# Altium integrated library Encoder_w_LED_ring.IntLib: 18 symbols
Pins are listed as number, name and electrical type; pins without a type are passive.

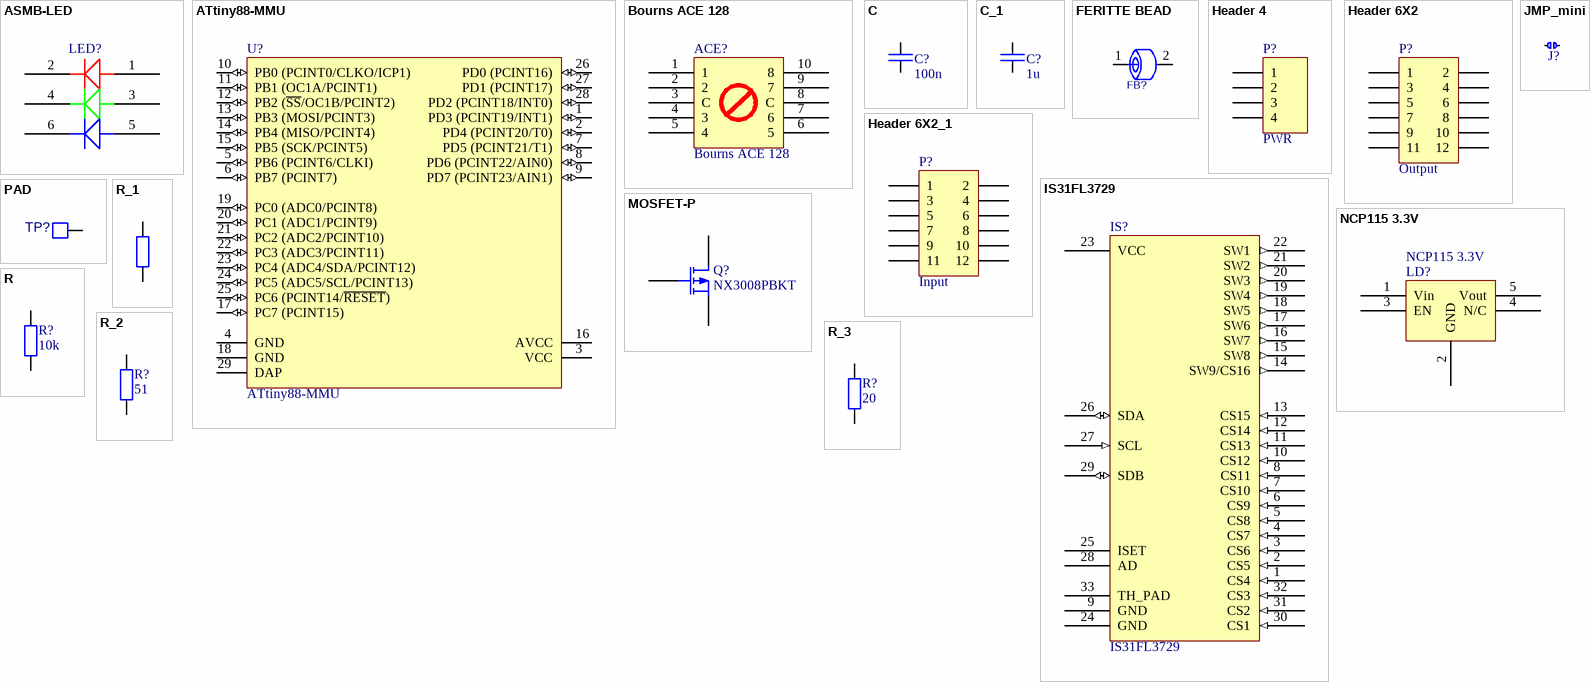
[diagram p0: symbols ASMB-LED to R_3]

## ASMB-LED
designator LED?, comment SMB-LED  (value not drawn)
footprint ASMB-LED
pins: 1, 2, 3, 4, 5, 6

## ATtiny88-MMU
designator U?
8-bit AVR Microcontroller, 1.8-5.5V, 8KB Flash, 64 Bytes EEPROM, 512 Bytes SRAM, 28-pin MLF, Industrial Grade (-40°C to 85°C), Pb-Free; Published: 1-Apr-2010; DatasheetVersion: revC, Mar-2009; PackageVersion: revB, Nov-2008; PackageReference: 28M1; Publisher: Altium Limited; PackageDescription: 28-pad, 4x4x1.0mm Body, Pitch 0.45mm, 2.4x2.4mm Exposed Pad, Plastic Very Thin QFN Package (VQFN); Supplier 1: Digi-Key; Supplier Part Number 1: ATTINY88-MMU-ND; Supplier 2: Mouser; Supplier Part Number 2: 556-ATTINY88-MMU; ComponentLink1Description: Manufacturer Link; ComponentLink1URL: http://www.atmel.com/products/avr/default.asp?; ComponentLink2Description: ATtiny48/88 Datasheet; ComponentLink2URL: http://www.atmel.com/dyn/resources/prod_documents/doc8008.pdf; ComponentLink3Description: ATtiny48/88 Summary; ComponentLink3URL: http://www.atmel.com/dyn/resources/prod_documents/8008S.pdf; ComponentLink4Description: Atmel.com Home; ComponentLink4URL: http://www.atmel.com
footprint 28M1_N (QFN, 28-Leads, Body 4x4mm, Pitch 0.45mm, IPC Medium Density)
footprint 28M1_L (QFN, 28-Leads, Body 4x4mm, Pitch 0.45mm, IPC High Density)
footprint 28M1_M (QFN, 28-Leads, Body 4x4mm, Pitch 0.45mm, IPC Low Density)
pins: 1 PD3 (PCINT19/INT1) (io), 2 PD4 (PCINT20/T0) (io), 3 VCC (power), 4 GND (power), 5 PB6 (PCINT6/CLKI) (io), 6 PB7 (PCINT7) (io), 7 PD5 (PCINT21/T1) (io), 8 PD6 (PCINT22/AIN0) (io), 9 PD7 (PCINT23/AIN1) (io), 10 PB0 (PCINT0/CLKO/ICP1) (io), 11 PB1 (OC1A/PCINT1) (io), 12 PB2 (~{SS}/OC1B/PCINT2) (io), 13 PB3 (MOSI/PCINT3) (io), 14 PB4 (MISO/PCINT4) (io), 15 PB5 (SCK/PCINT5) (io), 16 AVCC (power), 17 PC7 (PCINT15) (io), 18 GND (power), 19 PC0 (ADC0/PCINT8) (io), 20 PC1 (ADC1/PCINT9) (io), 21 PC2 (ADC2/PCINT10) (io), 22 PC3 (ADC3/PCINT11) (io), 23 PC4 (ADC4/SDA/PCINT12) (io), 24 PC5 (ADC5/SCL/PCINT13) (io), 25 PC6 (PCINT14/~{RESET}) (io), 26 PD0 (PCINT16) (io), 27 PD1 (PCINT17) (io), 28 PD2 (PCINT18/INT0) (io), 29 DAP

## Bourns ACE 128
designator ACE?
footprint Bourns ACE 128
pins: 1, 2, 3 C, 4 3, 5 4, 6 5, 7 6, 8 C, 9 7, 10 8

## C
designator C?, comment 100n
Capacitor
footprint C square R15 (600mil)
footprint C Square R5.08 (200mil)
footprint C ceramic F5mm
footprint C1608_0603I_L (Chip Capacitor, 2-Leads, Body 1.57x0.85mm, IPC High Density)
footprint C1608_0603I_M (Chip Capacitor, 2-Leads, Body 1.57x0.85mm, IPC Low Density)
footprint C1608_0603I_N (Chip Capacitor, 2-Leads, Body 1.57x0.85mm, IPC Medium Density)
footprint C1608_0603I_N-equidistant (Chip Capacitor, 2-Leads, Body 1.57x0.85mm, IPC Medium Density)
footprint C2012_0805I_L (Chip Capacitor, 2-Leads, Body 2.05x1.25mm, IPC High Density)
footprint C2012_0805I_M (Chip Capacitor, 2-Leads, Body 2.05x1.25mm, IPC Low Density)
footprint C2012_0805I_N (Chip Capacitor, 2-Leads, Body 2.05x1.25mm, IPC Medium Density)
footprint C3216_1206I_L (Chip Capacitor, 2-Leads, Body 3.20x1.60mm, IPC High Density)
footprint C3216_1206I_M (Chip Capacitor, 2-Leads, Body 3.20x1.60mm, IPC Low Density)
footprint C3216_1206I_N (Chip Capacitor, 2-Leads, Body 3.20x1.60mm, IPC Medium Density)
footprint C3225_1210I_L (Chip Capacitor, 2-Leads, Body 3.20x2.50mm, IPC High Density)
footprint C3225_1210I_M (Chip Capacitor, 2-Leads, Body 3.20x2.50mm, IPC Low Density)
footprint C3225_1210I_N (Chip Capacitor, 2-Leads, Body 3.20x2.50mm, IPC Medium Density)
footprint R1005_0402i_L (Resistor, Chip; 1.00 mm L X 0.50 mm W X 0.40 mm H body)
footprint R1005_0402i_L (Resistor, Chip; 1.00 mm L X 0.50 mm W X 0.40 mm H body)
pins: 1, 2

## C_1
designator C?, comment 1u
Capacitor
footprint C square R15 (600mil)
footprint C Square R5.08 (200mil)
footprint C ceramic F5mm
footprint C1608_0603I_L (Chip Capacitor, 2-Leads, Body 1.57x0.85mm, IPC High Density)
footprint C1608_0603I_M (Chip Capacitor, 2-Leads, Body 1.57x0.85mm, IPC Low Density)
footprint C1608_0603I_N (Chip Capacitor, 2-Leads, Body 1.57x0.85mm, IPC Medium Density)
footprint C1608_0603I_N-equidistant (Chip Capacitor, 2-Leads, Body 1.57x0.85mm, IPC Medium Density)
footprint C2012_0805I_L (Chip Capacitor, 2-Leads, Body 2.05x1.25mm, IPC High Density)
footprint C2012_0805I_M (Chip Capacitor, 2-Leads, Body 2.05x1.25mm, IPC Low Density)
footprint C2012_0805I_N (Chip Capacitor, 2-Leads, Body 2.05x1.25mm, IPC Medium Density)
footprint C3216_1206I_L (Chip Capacitor, 2-Leads, Body 3.20x1.60mm, IPC High Density)
footprint C3216_1206I_M (Chip Capacitor, 2-Leads, Body 3.20x1.60mm, IPC Low Density)
footprint C3216_1206I_N (Chip Capacitor, 2-Leads, Body 3.20x1.60mm, IPC Medium Density)
footprint C3225_1210I_L (Chip Capacitor, 2-Leads, Body 3.20x2.50mm, IPC High Density)
footprint C3225_1210I_M (Chip Capacitor, 2-Leads, Body 3.20x2.50mm, IPC Low Density)
footprint C3225_1210I_N (Chip Capacitor, 2-Leads, Body 3.20x2.50mm, IPC Medium Density)
pins: 1, 2

## FERITTE BEAD
designator FB?  (value not drawn)
footprint R1005_0402i_L (Resistor, Chip; 1.00 mm L X 0.50 mm W X 0.40 mm H body)
footprint R1005_0402i_M (Resistor, Chip; 1.00 mm L X 0.50 mm W X 0.40 mm H body)
footprint R1005_0402I_N (Resistor, Chip; 1.00 mm L X 0.50 mm W X 0.40 mm H body)
footprint R1608_0603I_L (Chip Resistor, 2-Leads, Body 1.57x0.85mm, IPC High Density)
footprint R1608_0603I_M (Chip Resistor, 2-Leads, Body 1.57x0.85mm, IPC Low Density)
footprint R1608_0603I_N-equidistant (Chip Resistor, 2-Leads, Body 1.57x0.85mm, IPC Medium Density)
footprint R1608_0603I_N (Chip Resistor, 2-Leads, Body 1.57x0.85mm, IPC Medium Density)
footprint R2012_0805I_L (Chip Resistor, 2-Leads, Body 2.05x1.25mm, IPC High Density)
footprint R2012_0805I_M (Chip Resistor, 2-Leads, Body 2.05x1.25mm, IPC Low Density)
footprint R2012_0805I_N (Chip Resistor, 2-Leads, Body 2.05x1.25mm, IPC Medium Density)
footprint R3216_1206I_L (Chip Resistor, 2-Leads, Body 3.15x1.60mm, IPC High Density)
footprint R3216_1206I_M (Chip Resistor, 2-Leads, Body 3.15x1.60mm, IPC Low Density)
footprint R3216_1206I_N (Chip Resistor, 2-Leads, Body 3.15x1.60mm, IPC Medium Density)
footprint R6432_2512I_L (Resistor, Chip; 6.40 mm L X 3.20 mm W X 0.75 mm H body)
footprint R6432_2512I_M (Resistor, Chip; 6.40 mm L X 3.20 mm W X 0.75 mm H body)
footprint R6432_2512I_N (Resistor, Chip; 6.40 mm L X 3.20 mm W X 0.75 mm H body)
pins: 1, 2

## Header 4
designator P?, comment PWR
Header, 4-Pin; LatestRevisionDate: 17-Jul-2002; LatestRevisionNote: Re-released for DXP Platform.; Publisher: Altium Limited
footprint HDR1X4 (Connector; Header; 4 Position)
signal-integrity model Connector
pins: 1, 2, 3, 4

## Header 6X2
designator P?, comment Output
Header, 6-Pin, Dual row; LatestRevisionDate: 17-Jul-2002; LatestRevisionNote: Re-released for DXP Platform.; Publisher: Altium Limited
footprint HDR2X6 (Connector; Header; 6x2 Position)
signal-integrity model Connector
footprint 1.27mm SMD conn
pins: 1, 2, 3, 4, 5, 6, 7, 8, 9, 10, 11, 12

## Header 6X2_1
designator P?, comment Input
Header, 6-Pin, Dual row; LatestRevisionDate: 17-Jul-2002; LatestRevisionNote: Re-released for DXP Platform.; Publisher: Altium Limited
footprint HDR2X6 (Connector; Header; 6x2 Position)
signal-integrity model Connector
footprint 1.27mm SMD conn
pins: 1, 2, 3, 4, 5, 6, 7, 8, 9, 10, 11, 12

## IS31FL3729
designator IS?
footprint QFN40P400X400X80_HS-33L (QFN, 32-Leads, Body 4,00x4,00mm, Pitch 0,40mm, Thermal Pad 2,80x2,80mm, IPC High Density)
pins: 1 CS4 (in), 2 CS5 (in), 3 CS6 (in), 4 CS7 (in), 5 CS8 (in), 6 CS9 (in), 7 CS10 (in), 8 CS11 (in), 9 GND (power), 10 CS12 (in), 11 CS13 (in), 12 CS14 (in), 13 CS15 (in), 14 SW9/CS16 (out), 15 SW8 (out), 16 SW7 (out), 17 SW6 (out), 18 SW5 (out), 19 SW4 (out), 20 SW3 (out), 21 SW2 (out), 22 SW1 (out), 23 VCC (power), 24 GND (power), 25 ISET (power), 26 SDA (io), 27 SCL (in), 28 AD (power), 29 SDB (io), 30 CS1 (in), 31 CS2 (in), 32 CS3 (in), 33 TH_PAD

## JMP_mini
designator J?, comment Terminator  (value not drawn)
footprint solderJumper
pins: 1, 2

## MOSFET-P
designator Q?, comment NX3008PBKT
P-Channel MOSFET; Published: 8-Jun-2000; LatestRevisionDate: 17-Jul-2002; LatestRevisionNote: Re-released for DXP Platform.; PackageVersion: 1995/1996; PackageReference: E3; Publisher: Altium Limited; PackageDescription: TO, Flat Index; 3 In-Line, Axial Leads; Body Dia. 4.6mm; Lead Dia. 0.5 mm (max)
footprint E3 (TO, Flat Index; 3 In-Line, Axial Leads; Body Dia. 4.6mm; Lead Dia. 0.5 mm (max))
simulation model PMOS (MOSFET-P)
footprint SOT95P230X110-3L (SOT23, 3-Leads, Body 2,90x2,30mm, Pitch 0,95mm, IPC High Density)
pins: 1 G, 2 S, 3 D

## NCP115 3.3V
designator LD?
footprint TSOP95P280X110-6L (TSOP, 6-Leads, Body 2,87x1,50mm, Pitch 0,95mm, IPC High Density)
pins: 1 Vin, 2 GND, 3 EN, 4 N/C, 5 Vout

## PAD
designator TP?  (value not drawn)
footprint PAD
footprint PAD_CIRC
footprint PAD_HOLE
footprint PAD_CIRC_HOLE
pins: 1

## R
designator R?, comment 10k
R
footprint R400
footprint R300
footprint R500
footprint LDR
footprint R_Ax_L1550_D500 (Resistor, Axial; 20.60 mm C X 0.80 mm W 15.50 mm L X 5.00 mm Dia body)
footprint R2012_0805I_N (Chip Resistor, 2-Leads, Body 2.05x1.25mm, IPC Medium Density)
footprint R1005_0402i_L (Resistor, Chip; 1.00 mm L X 0.50 mm W X 0.40 mm H body)
footprint R1005_0402i_M (Resistor, Chip; 1.00 mm L X 0.50 mm W X 0.40 mm H body)
footprint R1608_0603I_L (Chip Resistor, 2-Leads, Body 1.57x0.85mm, IPC High Density)
footprint R1608_0603I_M (Chip Resistor, 2-Leads, Body 1.57x0.85mm, IPC Low Density)
footprint R1608_0603I_N (Chip Resistor, 2-Leads, Body 1.57x0.85mm, IPC Medium Density)
footprint R1608_0603I_N-equidistant (Chip Resistor, 2-Leads, Body 1.57x0.85mm, IPC Medium Density)
footprint R1005_0402I_N (Resistor, Chip; 1.00 mm L X 0.50 mm W X 0.40 mm H body)
footprint R2012_0805I_L (Chip Resistor, 2-Leads, Body 2.05x1.25mm, IPC High Density)
footprint R2012_0805I_M (Chip Resistor, 2-Leads, Body 2.05x1.25mm, IPC Low Density)
footprint R3216_1206I_L (Chip Resistor, 2-Leads, Body 3.15x1.60mm, IPC High Density)
footprint R3216_1206I_N (Chip Resistor, 2-Leads, Body 3.15x1.60mm, IPC Medium Density)
footprint R6432_2512I_L (Resistor, Chip; 6.40 mm L X 3.20 mm W X 0.75 mm H body)
footprint R3216_1206I_M (Chip Resistor, 2-Leads, Body 3.15x1.60mm, IPC Low Density)
footprint R6432_2512I_N (Resistor, Chip; 6.40 mm L X 3.20 mm W X 0.75 mm H body)
footprint R6432_2512I_M (Resistor, Chip; 6.40 mm L X 3.20 mm W X 0.75 mm H body)
pins: 1, 2

## R_1
designator R?, comment 100k  (value not drawn)
R
footprint R400
footprint R300
footprint R500
footprint LDR
footprint R_Ax_L1550_D500 (Resistor, Axial; 20.60 mm C X 0.80 mm W 15.50 mm L X 5.00 mm Dia body)
footprint R2012_0805I_N (Chip Resistor, 2-Leads, Body 2.05x1.25mm, IPC Medium Density)
footprint R1005_0402i_L (Resistor, Chip; 1.00 mm L X 0.50 mm W X 0.40 mm H body)
footprint R1005_0402i_M (Resistor, Chip; 1.00 mm L X 0.50 mm W X 0.40 mm H body)
footprint R1608_0603I_L (Chip Resistor, 2-Leads, Body 1.57x0.85mm, IPC High Density)
footprint R1608_0603I_M (Chip Resistor, 2-Leads, Body 1.57x0.85mm, IPC Low Density)
footprint R1608_0603I_N (Chip Resistor, 2-Leads, Body 1.57x0.85mm, IPC Medium Density)
footprint R1608_0603I_N-equidistant (Chip Resistor, 2-Leads, Body 1.57x0.85mm, IPC Medium Density)
footprint R1005_0402I_N (Resistor, Chip; 1.00 mm L X 0.50 mm W X 0.40 mm H body)
footprint R2012_0805I_L (Chip Resistor, 2-Leads, Body 2.05x1.25mm, IPC High Density)
footprint R2012_0805I_M (Chip Resistor, 2-Leads, Body 2.05x1.25mm, IPC Low Density)
footprint R3216_1206I_L (Chip Resistor, 2-Leads, Body 3.15x1.60mm, IPC High Density)
footprint R3216_1206I_N (Chip Resistor, 2-Leads, Body 3.15x1.60mm, IPC Medium Density)
footprint R6432_2512I_L (Resistor, Chip; 6.40 mm L X 3.20 mm W X 0.75 mm H body)
footprint R3216_1206I_M (Chip Resistor, 2-Leads, Body 3.15x1.60mm, IPC Low Density)
footprint R6432_2512I_N (Resistor, Chip; 6.40 mm L X 3.20 mm W X 0.75 mm H body)
footprint R6432_2512I_M (Resistor, Chip; 6.40 mm L X 3.20 mm W X 0.75 mm H body)
pins: 1, 2

## R_2
designator R?, comment 51
R
footprint R400
footprint R300
footprint R500
footprint LDR
footprint R_Ax_L1550_D500 (Resistor, Axial; 20.60 mm C X 0.80 mm W 15.50 mm L X 5.00 mm Dia body)
footprint R2012_0805I_N (Chip Resistor, 2-Leads, Body 2.05x1.25mm, IPC Medium Density)
footprint R1005_0402i_L (Resistor, Chip; 1.00 mm L X 0.50 mm W X 0.40 mm H body)
footprint R1005_0402i_M (Resistor, Chip; 1.00 mm L X 0.50 mm W X 0.40 mm H body)
footprint R1608_0603I_L (Chip Resistor, 2-Leads, Body 1.57x0.85mm, IPC High Density)
footprint R1608_0603I_M (Chip Resistor, 2-Leads, Body 1.57x0.85mm, IPC Low Density)
footprint R1608_0603I_N (Chip Resistor, 2-Leads, Body 1.57x0.85mm, IPC Medium Density)
footprint R1608_0603I_N-equidistant (Chip Resistor, 2-Leads, Body 1.57x0.85mm, IPC Medium Density)
footprint R1005_0402I_N (Resistor, Chip; 1.00 mm L X 0.50 mm W X 0.40 mm H body)
footprint R2012_0805I_L (Chip Resistor, 2-Leads, Body 2.05x1.25mm, IPC High Density)
footprint R2012_0805I_M (Chip Resistor, 2-Leads, Body 2.05x1.25mm, IPC Low Density)
footprint R3216_1206I_L (Chip Resistor, 2-Leads, Body 3.15x1.60mm, IPC High Density)
footprint R3216_1206I_N (Chip Resistor, 2-Leads, Body 3.15x1.60mm, IPC Medium Density)
footprint R6432_2512I_L (Resistor, Chip; 6.40 mm L X 3.20 mm W X 0.75 mm H body)
footprint R3216_1206I_M (Chip Resistor, 2-Leads, Body 3.15x1.60mm, IPC Low Density)
footprint R6432_2512I_N (Resistor, Chip; 6.40 mm L X 3.20 mm W X 0.75 mm H body)
footprint R6432_2512I_M (Resistor, Chip; 6.40 mm L X 3.20 mm W X 0.75 mm H body)
pins: 1, 2

## R_3
designator R?, comment 20
R
footprint R400
footprint R300
footprint R500
footprint LDR
footprint R_Ax_L1550_D500 (Resistor, Axial; 20.60 mm C X 0.80 mm W 15.50 mm L X 5.00 mm Dia body)
footprint R2012_0805I_N (Chip Resistor, 2-Leads, Body 2.05x1.25mm, IPC Medium Density)
footprint R1005_0402i_L (Resistor, Chip; 1.00 mm L X 0.50 mm W X 0.40 mm H body)
footprint R1005_0402i_M (Resistor, Chip; 1.00 mm L X 0.50 mm W X 0.40 mm H body)
footprint R1608_0603I_L (Chip Resistor, 2-Leads, Body 1.57x0.85mm, IPC High Density)
footprint R1608_0603I_M (Chip Resistor, 2-Leads, Body 1.57x0.85mm, IPC Low Density)
footprint R1608_0603I_N (Chip Resistor, 2-Leads, Body 1.57x0.85mm, IPC Medium Density)
footprint R1608_0603I_N-equidistant (Chip Resistor, 2-Leads, Body 1.57x0.85mm, IPC Medium Density)
footprint R1005_0402I_N (Resistor, Chip; 1.00 mm L X 0.50 mm W X 0.40 mm H body)
footprint R2012_0805I_L (Chip Resistor, 2-Leads, Body 2.05x1.25mm, IPC High Density)
footprint R2012_0805I_M (Chip Resistor, 2-Leads, Body 2.05x1.25mm, IPC Low Density)
footprint R3216_1206I_L (Chip Resistor, 2-Leads, Body 3.15x1.60mm, IPC High Density)
footprint R3216_1206I_N (Chip Resistor, 2-Leads, Body 3.15x1.60mm, IPC Medium Density)
footprint R6432_2512I_L (Resistor, Chip; 6.40 mm L X 3.20 mm W X 0.75 mm H body)
footprint R3216_1206I_M (Chip Resistor, 2-Leads, Body 3.15x1.60mm, IPC Low Density)
footprint R6432_2512I_N (Resistor, Chip; 6.40 mm L X 3.20 mm W X 0.75 mm H body)
footprint R6432_2512I_M (Resistor, Chip; 6.40 mm L X 3.20 mm W X 0.75 mm H body)
pins: 1, 2